# Altium footprint library Resistance.PcbLib: 1 footprints
Each footprint in its own frame and in the unit in brackets; x right, y up, seen from the top. Pads: shape width x height; smd on the part's side, far side on the other; paste and mask are expansions set on the pad; w line width, h text height; cw(c..) or ccw(c..) is an arc to the next point about the centre after c.
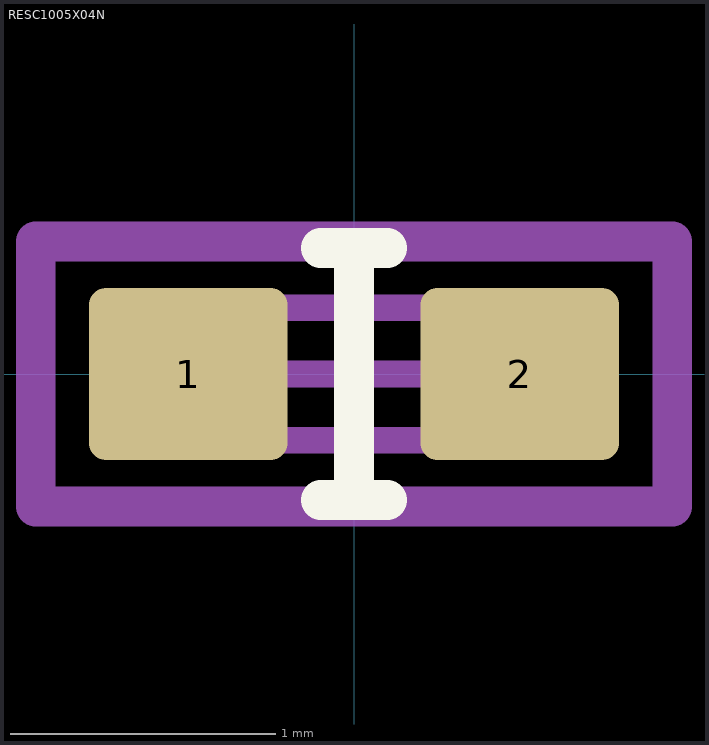
[diagram p0: the footprint, top view; thin cyan lines are the x and y axes]

## RESC1005X04N [mm] "Chip Resistor, 2-Leads, Body 1,1x0,5mm, IPC Medium Density"
height 0.4
pads (2):
  rrect20% 0.75x0.65 smd: 1(-0.625,0) 2(0.625,0)
Top Overlay:
  lines w0.15: -0.125,-0.475 0.125,-0.475 ; -0.125,0.475 0.125,0.475 ; 0,-0.475 0,0.475
Mechanical 13:
  lines w0.1: -0.5,-0.25 0.5,-0.25 0.5,0.25 -0.5,0.25 -0.5,-0.25
Mechanical 15:
  lines w0.1: -0.3,0 0.3,0 ; 0,-0.3 0,0.3
  lines w0.15: -1.2,-0.5 1.2,-0.5 1.2,0.5 -1.2,0.5 -1.2,-0.5
Mechanical 17:
  text ".Designator" at -0.425,-0.15 h0.5
3D body "User Library-RESC1005X04N.STEP": height 0.35, standoff 0, extent -0.5,-0.25 0.5,0.25